# EAGLE library part TPS54308DDCT (library microfloat)
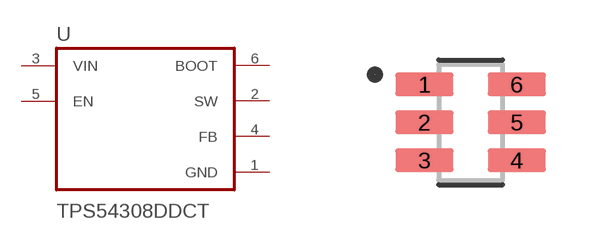
[diagram p0: symbol with the pads of SOT95P280X110-6N; footprint SOT95P280X110-6N]

Designator prefix U

## TPS54308DDCT (DESCRIPTION: 4.5V to 28V Input, 3A Output, Synchronous 350kHz FCCM Step-Down Converter 6-SOT-23-THIN -40 to 125; DIGI-KEY_PART_NUMBER: 296-47881-1-ND; MF: Texas Instruments; MP: TPS54308DDCT; PACKAGE: SOT-23-THN-6 Texas Instruments; PURCHASE-URL: https://pricing.snapeda.com/search/part/TPS54308DDCT/?ref=eda)  [SOT95P280X110-6N]
1  GND  pwr
2  SW
3  VIN  in
4  FB  in
5  EN  in
6  BOOT  out

## Footprint SOT95P280X110-6N (pad centres in mm)
smd 1.45 x 0.59: 1 -1.155,0.95; 2 -1.155,0; 3 -1.155,-0.95; 4 1.155,-0.95; 5 1.155,0; 6 1.155,0.95